# Altium footprint library LQ2304BLDCV2.PcbLib: 20 footprints (part 1 of 2)
Each footprint in its own frame and in the unit in brackets; x right, y up, seen from the top. Pads: shape width x height; smd on the part's side, far side on the other; paste and mask are expansions set on the pad; w line width, h text height; cw(c..) or ccw(c..) is an arc to the next point about the centre after c.
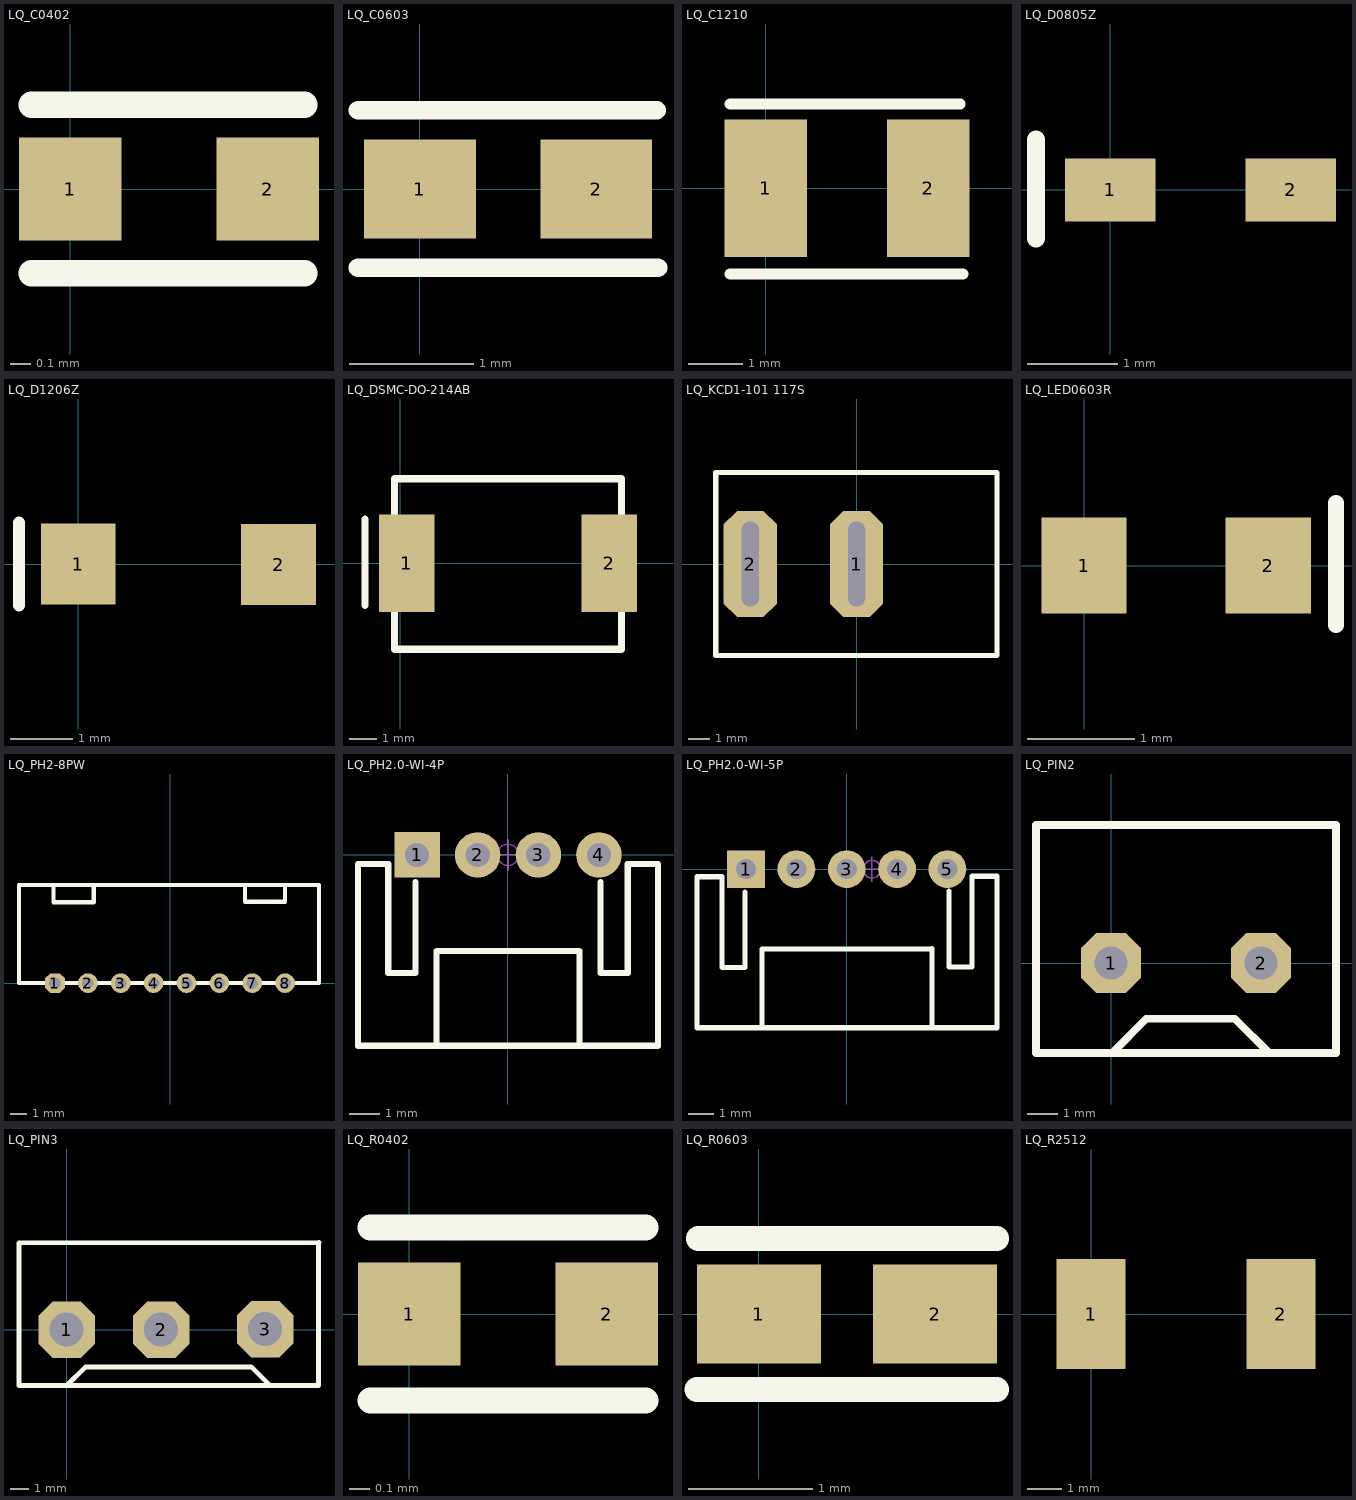
[diagram p0: the footprints below, top view; thin cyan lines are the x and y axes]

## LQ_C0402 [mm]
height 2.032
pads (2):
  rect 0.5x0.5 smd: 1(0,0) 2(0.96,0)
Top Overlay:
  lines w0.127: -0.19,-0.41 1.14,-0.41 ; -0.19,0.41 1.14,0.41
3D body "LQ_C0402.step": height 0.5, standoff 0, extent -0.02,-0.25 0.98,0.25

## LQ_C0603 [mm]
pads (2):
  rect 0.9x0.8 smd: 1(0,0) 2(1.422,0)
Top Overlay:
  lines w0.15: -0.5,-0.635 1.92,-0.635 ; -0.5,0.635 1.91,0.635
3D body "LQ_C0603.step": height 0.3, standoff 0, extent -0.08,-0.4 1.52,0.4

## LQ_C1210 [mil]
pads (2):
  rect 60x100 smd: 1(0,0) 2(118.11,0)
Top Overlay:
  lines w7.87: -25.98,-62.2 143.31,-62.2 ; -25.98,61.42 141.34,61.42
3D body "CAP-1210.step": height 98.43, standoff 0, extent -1.18,-49.21 124.81,49.21

## LQ_D0805Z [mm]
height 2.032
pads (2):
  rect 1x0.7 smd: 1(0,0) 2(2,0)
Top Overlay:
  lines w0.2: -0.82,-0.54 -0.82,0.56
3D body "LQ_Diode-SOD323.step": height 1.1, standoff 0, extent -0.33,-0.625 2.37,0.625

## LQ_D1206Z [mm]
pads (2):
  rect 1.2x1.3 smd: 1(0,0) 2(3.22,-0.01)
Top Overlay:
  lines w0.2: -0.95,-0.66 -0.95,0.66
3D body "LQ_Diode-SMD-1206.STEP": height 1.51, standoff 0.01, extent -0.19,-0.77 3.309,0.73

## LQ_DSMC-DO-214AB [mm]
pads (2):
  rect 2x3.5 smd: 1(0.23,0) 2(7.5,0)
Top Overlay:
  lines w0.254: -1.27,-1.5 -1.27,1.59 ; -0.21,-3.08 7.94,-3.08 7.94,3.04 -0.21,3.04 -0.21,-3.08
3D body "Diode-SMC.step": height 2.4, standoff 0.03, extent -0.185,-3.08 7.945,3.02

## LQ_KCD1-101 117S [mm]
pads (2):
  oct 2.5x5 hole 0.8 slot 4 at 90 deg: 1(0,0) 2(-5,0)
Top Overlay:
  lines w0.254: -6.61,-4.28 -6.61,4.3 ; -6.6,-4.3 6.6,-4.3 6.6,4.29 ; -6.6,4.3 6.6,4.3
3D body "KCD11-A-101O11RB.STEP": height 14.1, standoff -5, extent -7.54,-5.47 7.46,5.03

## LQ_LED0603R [mm]
pads (2):
  rect 0.8x0.9 smd: 1(0,0) 2(1.727,0)
Top Overlay:
  lines w0.15: 2.362,-0.556 2.362,0.584
3D body "LQ_LED0603R.STEP": height 0.9, standoff 0, extent 0.02,-0.45 1.72,0.45

## LQ_PH2-8PW [mm]
pads (8):
  oct 1.2x1.2 hole 0.7: 1(-7,0)
  round 1.2 hole 0.7: 2(-5,0) 3(-3,0) 4(-1,0) 5(1,0) 6(3,0) 7(5,0) 8(7,0)
Top Overlay:
  lines w0.254: -7.09,5.94 -7.09,4.92 -4.64,4.92 -4.64,5.94 ; 4.55,5.97 4.55,4.95 7,4.95 7,5.97 ; -9.19,0 -9.19,5.97 9.06,5.97 9.06,0 -9.19,0

## LQ_PH2.0-WI-4P [mm] "长：9.9mm，宽：6mm，高：4.7mm"
height 10
pads (4):
  rect 1.5x1.5 hole 0.8: 1(-3,0)
  round 1.5 hole 0.8: 2(-1,0) 3(1,0) 4(3,0)
Top Overlay:
  lines w0.203: -3.05,-0.9 -3.05,-3.9 -3.95,-3.9 -3.95,-3.3 -3.95,-0.3 -4,-0.3 -4.95,-0.3 -4.95,-6.3 4.95,-6.3 4.95,-0.3 4,-0.3 3.95,-0.3 3.95,-3.3 3.95,-3.9 3.05,-3.9 3.05,-0.9 ; -2.365,-6.215 -2.365,-3.175 2.365,-3.175 2.365,-6.215
Mechanical 15:
  circle w0.05: c0,0 r0.35
  lines w0.05: -0.5,0 0.5,0 ; 0,-0.5 0,0.5
3D body "PH2.0-WI-4P.STEP": height 4.75, standoff -2.65, extent -4.95,-6.3 4.95,0.3

## LQ_PH2.0-WI-5P [mm] "长：13.9mm，宽：6mm，高：4.7mm"
height 10
pads (5):
  rect 1.5x1.5 hole 0.8: 1(-4,0)
  round 1.5 hole 0.8: 2(-2,0) 3(0,0) 4(2,0) 5(4,0)
Top Overlay:
  lines w0.203: -4.05,-0.9 -4.05,-3.9 -4.95,-3.9 -4.95,-3.3 -4.95,-0.3 -5,-0.3 -5.95,-0.3 -5.95,-6.3 5.97,-6.3 ; -3.365,-6.215 -3.365,-3.175 3.385,-3.175 ; 3.385,-6.195 3.385,-3.155 ; 4.07,-0.88 4.07,-3.88 4.97,-3.88 4.97,-3.28 4.97,-0.28 5.02,-0.28 5.97,-0.28 5.97,-6.28
Mechanical 15:
  circle w0.05: c1,0 r0.35
  lines w0.05: 0.5,0 1.5,0 ; 1,-0.5 1,0.5

## LQ_PIN2 [mm]
pads (2):
  oct 2x2 hole 1.1: 1(0,0) 2(5,0)
Top Overlay:
  lines w0.254: 0.04,-3 1.18,-1.86 4.13,-1.86 5.27,-3 ; -2.5,-3 -2.5,4.6 7.5,4.6 7.5,-3 -2.5,-3
3D body "Header-KF301-2.STEP": height 10, standoff -3, extent -2.81,-2.97 7.79,4.63

## LQ_PIN3 [mm]
pads (3):
  oct 3x3 hole 1.8: 1(0,0) 2(5,0) 3(10.5,0.03)
Top Overlay:
  lines w0.254: -2.52,4.6 -2.52,-2.95 13.33,-2.95 ; -2.5,4.6 13.35,4.61 ; 0.02,-2.95 1,-1.97 9.77,-1.97 10.75,-2.95 ; 13.32,-2.95 13.32,4.6
3D body "LQ_KF301-3.STEP": height 10, standoff -3, extent -2.47,-3.07 13.13,4.53

## LQ_R0402 [mm]
height 2.032
pads (2):
  rect 0.5x0.5 smd: 1(0,0) 2(0.96,0)
Top Overlay:
  lines w0.127: -0.19,-0.42 1.15,-0.42 ; -0.19,0.42 1.15,0.42
3D body "LQ_R0402_1005.STEP": height 0.41, standoff 0, extent -0.105,-0.285 1.045,0.265

## LQ_R0603 [mm]
pads (2):
  rect 1x0.8 smd: 1(0,0) 2(1.422,0)
Top Overlay:
  lines w0.2: -0.5,-0.61 1.92,-0.61 ; -0.49,0.61 1.92,0.61
3D body "RES-0603.step": height 0.48, standoff 0.02, extent -0.08,-0.4 1.52,0.4

## LQ_R2512 [mm]
pads (2):
  rect 2x3.2 smd: 1(0,0) 2(5.5,0)
3D body "LQ_R2512.step": height 0.3, standoff -0.3, extent -0.45,-1.61 5.95,1.59